# EAGLE library part GMSTBV7 (library con-phoenix-762)
PHOENIX
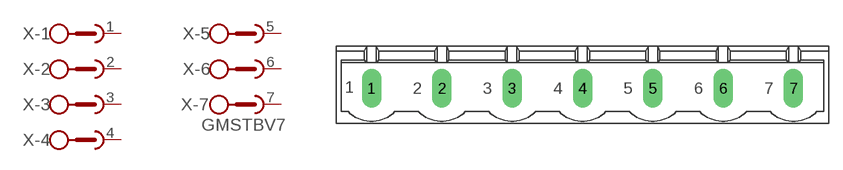
[diagram p7: symbol with the pads of GMSTBV7; footprint GMSTBV7]

Designator prefix X; gates -1=SKB -2=SKB -3=SKB -4=SKB -5=SKB -6=SKB -7=SKBV

## GMSTBV7 (OC_FARNELL: unknown; OC_NEWARK: unknown)  [GMSTBV7]
1  -1:1  pas
2  -2:1  pas
3  -3:1  pas
4  -4:1  pas
5  -5:1  pas
6  -6:1  pas
7  -7:1  pas

## Footprint GMSTBV7 (pad centres in mm)
PHOENIX
drill 1.397 long: 1 -22.86,0; 2 -15.24,0; 3 -7.62,0; 4 0,0; 5 7.62,0; 6 15.24,0; 7 22.86,0